# EAGLE library part TINY2040_HEADER (library tiny2040_headerd)
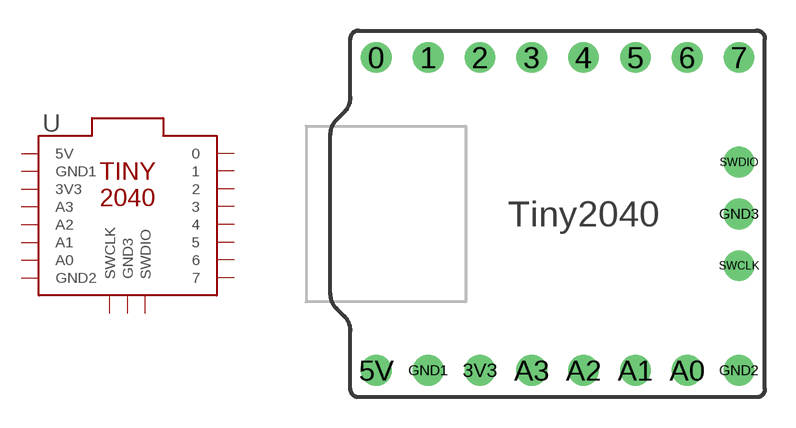
[diagram p0: symbol with the pads of TINY2040_HEADER; footprint TINY2040_HEADER]

Designator prefix -

## TINY2040_HEADER  [TINY2040_HEADER]
0  0
1  1
2  2
3  3
3V3  3V3
4  4
5  5
5V  5V
6  6
7  7
A0  A0
A1  A1
A2  A2
A3  A3
GND1  GND1
GND2  GND2
GND3  GND3
SWCLK  SWCLK
SWDIO  SWDIO

## Footprint TINY2040_HEADER (pad centres in mm)
drill 1 pad 1.27: 0 1.27,7.68; 1 3.81,7.68; 2 6.35,7.68; 3 8.89,7.68; 3V3 6.35,-7.68; 4 11.43,7.68; 5 13.97,7.68; 5V 1.27,-7.68; 6 16.51,7.68; 7 19.05,7.68; A0 16.51,-7.68; A1 13.97,-7.68; A2 11.43,-7.68; A3 8.89,-7.68; GND1 3.81,-7.68; GND2 19.05,-7.68; GND3 19.05,0; SWCLK 19.05,-2.54; SWDIO 19.05,2.54